# Altium schematic symbol library Tractor2000.SchLib: 13 symbols
Pins are listed as number, name and electrical type; pins without a type are passive.

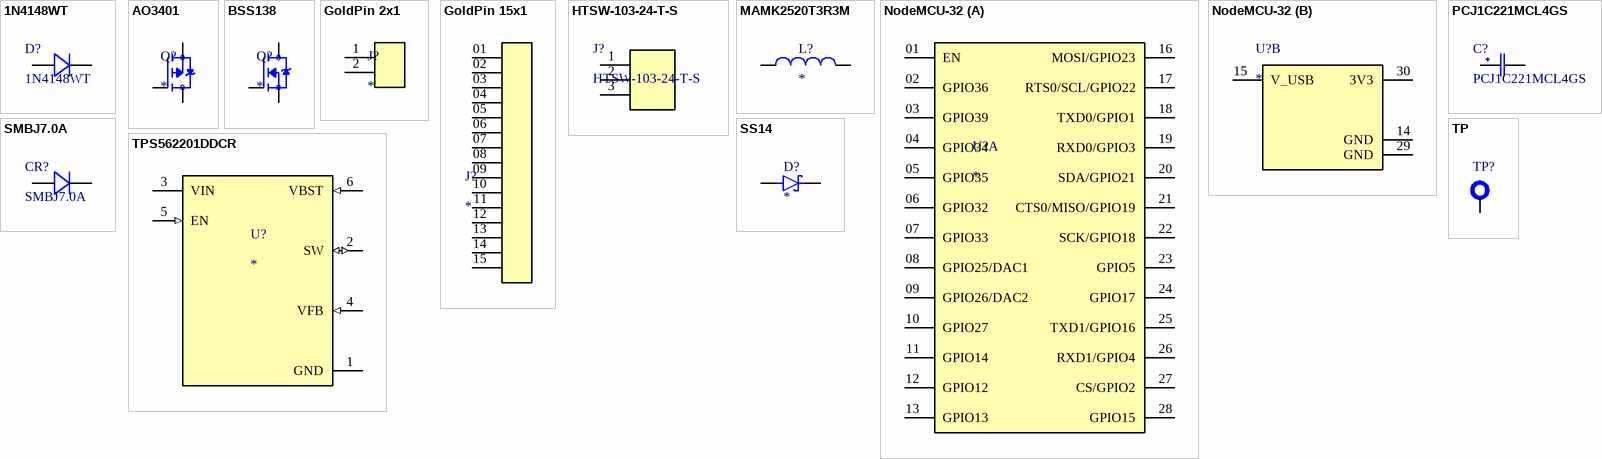
[diagram p0: symbols 1N4148WT to TPS562201DDCR]

## 1N4148WT
designator D?
Description; Manufacturer_Name: Littelfuse Inc; Manufacturer_Part_Number: SMBJ7.0A; Copyright: Copyright (C) 2025 Ultra Librarian. All rights reserved.
footprint SMBJSeries_LTF
pins: 1, 2

## AO3401
designator Q?
P-Channel 30 V 4A Surface Mount SOT-23-3; MF: onsemi; MP: BSS138; SnapEDA_Link: https://www.snapeda.com/parts/BSS138/Onsemi/view-part/?ref=snap; Package: SOT-23-3 ON Semiconductor; Value: *; Check_prices: https://www.snapeda.com/parts/BSS138/Onsemi/view-part/?ref=eda
footprint SOT95P240X111-3N
pins: 1 G, 2 S, 3 D

## BSS138
designator Q?
N-Channel 50 V 220mA (Ta) 350mW (Ta) Surface Mount SOT-23-3; MF: onsemi; MP: BSS138; SnapEDA_Link: https://www.snapeda.com/parts/BSS138/Onsemi/view-part/?ref=snap; Package: SOT-23-3 ON Semiconductor; Value: *; Check_prices: https://www.snapeda.com/parts/BSS138/Onsemi/view-part/?ref=eda
footprint SOT95P240X111-3N
pins: 1 G, 2 S, 3 D

## GoldPin 2x1
designator J?
2.54mm (0.1) Pitch SIL Vertical Throughboard Pin Header, 6.1mm mating pin height, tin, 2 contacts; MF: Harwin; MP: M20-9990246; SnapEDA_Link: https://www.snapeda.com/parts/M20-9990246/Harwin/view-part/?ref=snap; Package: None; Value: *; Check_prices: https://www.snapeda.com/parts/M20-9990246/Harwin/view-part/?ref=eda
footprint HARWIN_M20-9990246
pins: 1, 2

## GoldPin 15x1
designator J?
MF: Samtec Inc.; MP: TS-115-T-A; Package: None; Price: None; Value: *; Availability: Unavailable
footprint SAMTEC_TS-115-T-A
pins: 01, 02, 03, 04, 05, 06, 07, 08, 09, 10, 11, 12, 13, 14, 15

## HTSW-103-24-T-S
designator J?
Description; Manufacturer_Name: Samtec Inc; Copyright: Copyright (C) 2026 Ultra Librarian. All rights reserved.; Manufacturer_Part_Number: HTSW-103-24-T-S; RefDes: RefDes; Type: Type
footprint CON3_1X3_TU_TSW_SAI
pins: 1, 2, 3

## MAMK2520T3R3M
designator L?
3.3 ÂµH Shielded Drum Core, Wirewound Inductor 1.7 A 156mOhm Max 1008 (2520 Metric); MF: Taiyo Yuden; MP: MAMK2520T3R3M; SnapEDA_Link: https://www.snapeda.com/parts/MAMK2520T3R3M/Taiyo+Yuden/view-part/?ref=snap; Package: 2520 Taiyo Yuden; Value: *; Check_prices: https://www.snapeda.com/parts/MAMK2520T3R3M/Taiyo+Yuden/view-part/?ref=eda
footprint INDC2520X120N
pins: 1, 2

## NodeMCU-32
designator U?
MF: Samtec Inc.; MP: TS-115-T-A; Package: None; Price: None; Value: *; Availability: Unavailable
footprint NodeMCU-32
part A pins: 01 EN, 02 GPIO36, 03 GPIO39, 04 GPIO34, 05 GPIO35, 06 GPIO32, 07 GPIO33, 08 GPIO25/DAC1, 09 GPIO26/DAC2, 10 GPIO27, 11 GPIO14, 12 GPIO12, 13 GPIO13, 16 MOSI/GPIO23, 17 RTS0/SCL/GPIO22, 18 TXD0/GPIO1, 19 RXD0/GPIO3, 20 SDA/GPIO21, 21 CTS0/MISO/GPIO19, 22 SCK/GPIO18, 23 GPIO5, 24 GPIO17, 25 TXD1/GPIO16, 26 RXD1/GPIO4, 27 CS/GPIO2, 28 GPIO15
part B pins: 14 GND, 15 V_USB, 29 GND, 30 3V3

## PCJ1C221MCL4GS
designator C?
No Description Available; Manufacturer_Name: Nichicon; Copyright: Copyright (C) 2026 Ultra Librarian. All rights reserved.; Manufacturer_Part_Number: PCJ1C221MCL4GS
footprint CAP_PC_8X10_NCH
pins: 1, 2

## SMBJ7.0A
designator CR?
Description; Manufacturer_Name: Littelfuse Inc; Copyright: Copyright (C) 2025 Ultra Librarian. All rights reserved.; Manufacturer_Part_Number: SMBJ7.0A
footprint SMBJSeries_LTF
pins: 1, 2

## SS14
designator D?
1A, 40V, Schottky Rectifier; MF: Taiwan Semiconductor; MP: SS14; SnapEDA_Link: https://www.snapeda.com/parts/SS14/taiwan/view-part/?ref=snap; Package: SMA-2 Taiwan Semiconductor; Value: *; Check_prices: https://www.snapeda.com/parts/SS14/taiwan/view-part/?ref=eda
footprint DIOM4325X250N
pins: A, C K

## TP
designator TP?  (value not drawn)  (no BOM)
footprint TP
pins: 1

## TPS562201DDCR
designator U?
4.5 V to 17 V input, 2 A output, synchronous step-down converter in Eco-mode; MF: Texas Instruments; MP: TPS562201DDCR; SnapEDA_Link: https://www.snapeda.com/parts/TPS562201DDCR/Texas+Instruments/view-part/?ref=snap; Package: SOT-23-THN-6 Texas Instruments; Value: *; Check_prices: https://www.snapeda.com/parts/TPS562201DDCR/Texas+Instruments/view-part/?ref=eda
footprint SOT95P280X110-6N
pins: 1 GND (power), 2 SW (io), 3 VIN (power), 4 VFB (in), 5 EN (in), 6 VBST (in)